# Altium footprint library openadsb_rev_a.PcbLib: 19 footprints (part 1 of 2)
Each footprint in its own frame and in the unit in brackets; x right, y up, seen from the top. Pads: shape width x height; smd on the part's side, far side on the other; paste and mask are expansions set on the pad; w line width, h text height; cw(c..) or ccw(c..) is an arc to the next point about the centre after c.
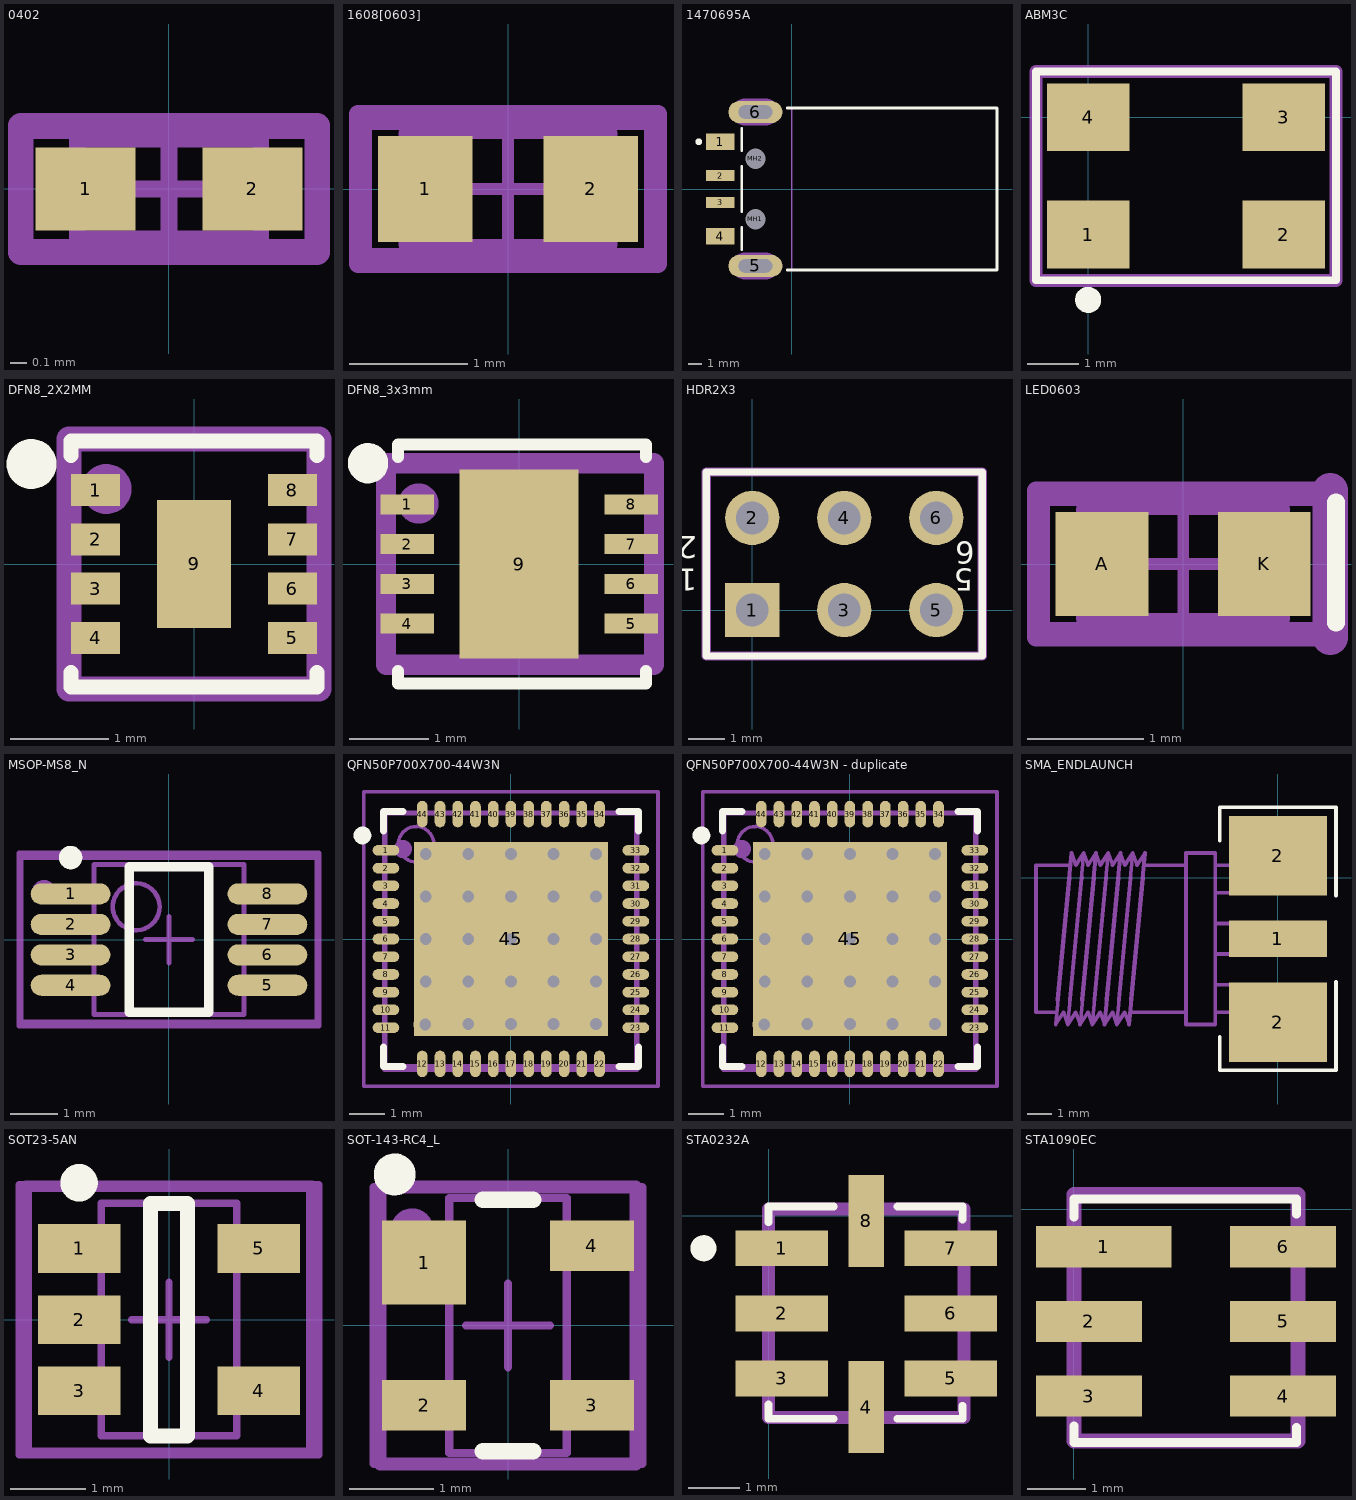
[diagram p0: the footprints below, top view; thin cyan lines are the x and y axes]

## 0402 [mm] "Chip Capacitor, Body 1.0x0.5mm, IPC High Density"
height 1.3
pads (2):
  rect 0.6x0.5 smd: 1(-0.5,0) 2(0.5,0)
Mechanical 1:
  lines w0.152: -0.889,-0.381 0.889,-0.381 0.889,0.381 -0.889,0.381 -0.889,-0.381
  text ".Designator" at 0.635,0.254 h0.51
Mechanical 13:
  lines w0.1: -0.55,-0.3 0.55,-0.3 0.55,0.3 -0.55,0.3 -0.55,-0.3
Mechanical 15:
  lines w0.1: -0.3,0 0.3,0 ; 0,-0.3 0,0.3 ; -0.9,-0.35 0.9,-0.35 0.9,0.35 -0.9,0.35 -0.9,-0.35
3D body: height 1.3, standoff 0, extent -0.55,-0.3 0.55,0.3

## 1608[0603] [mm] "Chip Capacitor, Body 1.6x0.8mm, IPC High Density"
height 1.3
pads (2):
  rect 0.8x0.9 smd: 1(-0.7,0) 2(0.7,0)
Mechanical 1:
  lines w0.152: -1.27,-0.635 -1.27,0.635 1.27,0.635 1.27,-0.635 -1.27,-0.635
  text ".Designator" at -1.016,-0.254 h0.51
Mechanical 13:
  lines w0.1: -0.875,-0.475 -0.875,0.475 0.875,0.475 0.875,-0.475 -0.875,-0.475
Mechanical 15:
  lines w0.1: -0.475,0 0.475,0 ; 0,-0.475 0,0.475 ; -1.2,-0.55 -1.2,0.55 1.2,0.55 1.2,-0.55 -1.2,-0.55
3D body: height 1.3, standoff 0, extent -0.875,-0.475 0.875,0.475

## 1470695A [mm] "Connector; USB1.1, Type A, SM; 4 Position; Right Angle"
height 4.5
pads (8):
  rect 2.1x1.2 smd: 1(-5.3,3.5) 4(-5.3,-3.5)
  rect 2.1x0.8 smd: 2(-5.3,1) 3(-5.3,-1)
  oval 4x1.65 hole 1 slot 2.5 at 0 deg: 5(-2.7,-5.7) 6(-2.7,5.7)
  round 1.2 hole 1.5 unplated: MH1(-2.7,-2.25) MH2(-2.7,2.25)
Top Overlay:
  circle w0.25: c-6.9,3.5 r0.125
  lines w0.2: -3.7,-4.475 -3.7,-2.83 ; -3.7,-1.68 -3.7,1.68 ; -3.7,2.83 -3.7,4.475 ; -0.33,-6 15.2,-6 15.2,6 -0.33,6
Mechanical 1:
  lines w0.1: 0,-6 0,6
  lines w1: -3.45,-5.7 -1.95,-5.7 ; -3.45,5.7 -1.95,5.7
  text ".Designator" at -1.194,-0.051 h0.51
  text "PCB Edge" at 0.473,-5.173 h0.25
  text "Alert PCB fab to slot details" at -1,8.176 h0.3
  text "Slot 1x2.5mm, PTH" at -1,7.676 h0.3
  text "Assign keep-out area to slot" at -1,8.676 h0.3
  text "Mech 1 - Slot cut-out" at -1,7.176 h0.3
  text "Mech 2 - Clearance, move to internal plane if present" at -1,6.676 h0.3
Mechanical 2:
  lines w2.016: -3.45,-5.7 -1.95,-5.7 ; -3.45,5.7 -1.95,5.7

## ABM3C [mil]
height 21.65
pads (4):
  rect 63x52 smd: 1(0,-90) 2(150,-90) 3(150,0) 4(0,0)
Top Overlay:
  circle w10: c0,-140 r5
  lines w6: -40,-125 190,-125 190,35 -40,35 -40,-125
Mechanical 1:
  circle w10: c0,-100 r5
  lines w10: -40,-125 190,-125 190,35 -40,35 -40,-125
  text ".Designator" at 71,-35 h20

## DFN8_2X2MM [mm]
height 0.9
pads (9):
  rect 0.5x0.325 smd: 1(-1,0.75) 2(-1,0.25) 3(-1,-0.25) 4(-1,-0.75) 5(1,-0.75) 6(1,-0.25) 7(1,0.25) 8(1,0.75)
  rect 0.749x1.3 smd: 9(0,0)
Top Overlay:
  circle w0.254: c-1.651,1.016 r0.127
  lines w0.152: -1.25,-1.1 -1.25,-1.25 1.25,-1.25 1.25,-1.1 ; -1.25,1.1 -1.25,1.25 1.25,1.25 1.25,1.1
Mechanical 1:
  circle w0.254: c-0.889,0.762 r0.127
  lines w0.254: -1.27,-1.27 -1.27,1.27 1.27,1.27 1.27,-1.27 -1.27,-1.27
  text ".Designator" at 0.152,-0.279 h0.51

## DFN8_3x3mm [mm]
height 0.75
pads (9):
  rect 0.675x0.25 smd: 1(-1.41,0.75) 2(-1.41,0.25) 3(-1.41,-0.25) 4(-1.41,-0.75) 5(1.41,-0.75) 6(1.41,-0.25) 7(1.41,0.25) 8(1.41,0.75)
  rect 1.5x2.38 smd: 9(-0.004,0)
Top Overlay:
  circle w0.254: c-1.905,1.27 r0.127
  lines w0.152: -1.528,-1.504 1.597,-1.504 ; -1.528,-1.499 -1.528,-1.349 ; -1.528,1.349 -1.528,1.499 ; -1.528,1.504 1.597,1.504 ; 1.597,-1.496 1.597,-1.346 ; 1.597,1.346 1.597,1.496
Mechanical 1:
  circle w0.254: c-1.27,0.762 r0.127
  lines w0.254: -1.68,-1.27 1.698,-1.27 1.698,1.27 -1.68,1.27 -1.68,-1.27
  text ".Designator" at -0.689,-0.279 h0.51

## HDR2X3 [mm] "Connector; Header; 3x2 Position"
height 0.9
pads (6):
  rect 1.5x1.5 hole 0.9: 1(0,0)
  round 1.5 hole 0.9: 2(0,2.54) 3(2.54,0) 4(2.54,2.54) 5(5.08,0) 6(5.08,2.54)
Top Overlay:
  lines w0.2: 1.482,-1.27 6.35,-1.27 ; 6.35,-1.27 6.35,3.81 -1.27,3.81 -1.27,-1.27 6.35,-1.27
  text "6" at 6.147,1.88 h0.61
  text "5" at 6.096,1.143 h0.61
  text "2" at -1.524,2.032 h0.61
  text "1" at -1.524,1.143 h0.61
Mechanical 1:
  lines w0.254: -1.27,-1.27 6.35,-1.27 6.35,3.81 -1.27,3.81 -1.27,-1.27
  text ".Designator" at 2.845,0.635 h0.51

## LED0603 [mm] "Chip Capacitor, Body 1.6x0.8mm, IPC High Density"
height 1.3
pads (2):
  rect 0.8x0.9 smd: A(-0.7,0) K(0.7,0)
Top Overlay:
  lines w0.152: 1.321,-0.508 1.321,0.533
Mechanical 1:
  lines w0.152: 1.27,-0.635 -1.27,-0.635 -1.27,0.635 1.27,0.635
  lines w0.305: 1.27,-0.635 1.27,0.635
  text ".Designator" at -1.016,-0.254 h0.51
Mechanical 13:
  lines w0.1: -0.875,-0.475 0.875,-0.475 0.875,0.475 -0.875,0.475 -0.875,-0.475
Mechanical 15:
  lines w0.1: -0.475,0 0.475,0 ; 0,-0.475 0,0.475 ; -1.2,-0.55 1.2,-0.55 1.2,0.55 -1.2,0.55 -1.2,-0.55
3D body: height 1.3, standoff 0, extent -0.875,-0.475 0.875,0.475

## MSOP-MS8_N [mm] "TSOP, 8-Leads, Body 3x3mm, Pitch 0.65mm, IPC Medium Density"
height 1.1
pads (8):
  oval 1.7x0.45 smd: 1(-2.1,0.975) 2(-2.1,0.325) 3(-2.1,-0.325) 4(-2.1,-0.975) 5(2.1,-0.975) 6(2.1,-0.325) 7(2.1,0.325) 8(2.1,0.975)
Top Overlay:
  circle w0.25: c-2.1,1.75 r0.125
  lines w0.2: -0.85,-1.55 -0.85,1.55 0.85,1.55 0.85,-1.55 -0.85,-1.55
Mechanical 1:
  circle w0.254: c-2.667,1.016 r0.127
  lines w0.152: -3.175,-1.778 -3.175,1.778 3.175,1.778 3.175,-1.778 -3.175,-1.778
  text ".Designator" at 0.254,0.279 h0.51
Mechanical 13:
  circle w0.1: c-0.7,0.7 r0.5
  lines w0.1: -1.6,-1.6 -1.6,1.6 1.6,1.6 1.6,-1.6 -1.6,-1.6
Mechanical 15:
  lines w0.1: -0.5,0 0.5,0 ; 0,-0.5 0,0.5 ; -3.2,-1.85 -3.2,1.85 3.2,1.85 3.2,-1.85 -3.2,-1.85
3D body: height 1.1, standoff 0, extent -1.6,-1.6 1.6,1.6

## QFN50P700X700-44W3N [mm] "QFN, 44-Leads, Body 7x7mm, Pitch 0.5mm, IPC Medium Density"
height 0.8
pads (45):
  oval 0.75x0.3 smd: 1(-3.525,2.5) 2(-3.525,2) 3(-3.525,1.5) 4(-3.525,1) 5(-3.525,0.5) 6(-3.525,0) 7(-3.525,-0.5) 8(-3.525,-1) 9(-3.525,-1.5) 10(-3.525,-2) 11(-3.525,-2.5) 23(3.525,-2.5) 24(3.525,-2) 25(3.525,-1.5) 26(3.525,-1) 27(3.525,-0.5) 28(3.525,0) 29(3.525,0.5) 30(3.525,1) 31(3.525,1.5) 32(3.525,2) 33(3.525,2.5)
  oval 0.3x0.75 smd: 12(-2.5,-3.525) 13(-2,-3.525) 14(-1.5,-3.525) 15(-1,-3.525) 16(-0.5,-3.525) 17(0,-3.525) 18(0.5,-3.525) 19(1,-3.525) 20(1.5,-3.525) 21(2,-3.525) 22(2.5,-3.525) 34(2.5,3.525) 35(2,3.525) 36(1.5,3.525) 37(1,3.525) 38(0.5,3.525) 39(0,3.525) 40(-0.5,3.525) 41(-1,3.525) 42(-1.5,3.525) 43(-2,3.525) 44(-2.5,3.525)
  rect 5.475x5.475 smd: 45(0,0)
via -2.413,-2.413 diameter 0.66 hole 0.33
via -2.4,2.4 diameter 0.66 hole 0.33
via -2.4,0 diameter 0.66 hole 0.33
via -2.4,1.2 diameter 0.66 hole 0.33
via -2.4,-1.2 diameter 0.66 hole 0.33
via -1.2,2.4 diameter 0.66 hole 0.33
via 0,2.4 diameter 0.66 hole 0.33
via 2.4,2.4 diameter 0.66 hole 0.33
via -1.2,0 diameter 0.66 hole 0.33
via 1.2,2.4 diameter 0.66 hole 0.33
via -1.2,1.2 diameter 0.66 hole 0.33
via 0,1.2 diameter 0.66 hole 0.33
via 1.2,1.2 diameter 0.66 hole 0.33
via 2.4,1.2 diameter 0.66 hole 0.33
via 0,0 diameter 0.66 hole 0.33
via 1.2,0 diameter 0.66 hole 0.33
via 2.4,0 diameter 0.66 hole 0.33
via -1.2,-1.2 diameter 0.66 hole 0.33
via 0,-1.2 diameter 0.66 hole 0.33
via 1.2,-1.2 diameter 0.66 hole 0.33
via 2.4,-1.2 diameter 0.66 hole 0.33
via -1.2,-2.4 diameter 0.66 hole 0.33
via 0,-2.4 diameter 0.66 hole 0.33
via 1.2,-2.4 diameter 0.66 hole 0.33
via 2.4,-2.4 diameter 0.66 hole 0.33
Top Overlay:
  circle w0.25: c-4.189,2.921 r0.125
  lines w0.2: -3.6,-3.05 -3.6,-3.6 -3.05,-3.6 ; -3.6,3.05 -3.6,3.6 -3.05,3.6 ; 3.05,-3.6 3.6,-3.6 3.6,-3.05 ; 3.05,3.6 3.6,3.6 3.6,3.05
Mechanical 1:
  circle w0.254: c-3.048,2.54 r0.127
  lines w0.152: -3.556,-3.683 3.556,-3.683 3.556,3.556 -3.556,3.556 -3.556,-3.683
  text ".Designator" at -0.203,-0.432 h0.51
Mechanical 13:
  circle w0.1: c-2.675,2.675 r0.5
  lines w0.1: -3.575,-3.575 -3.575,3.575 3.575,3.575 3.575,-3.575 -3.575,-3.575
Mechanical 15:
  lines w0.1: -0.5,0 0.5,0 ; 0,-0.5 0,0.5 ; -4.15,-4.15 -4.15,4.15 4.15,4.15 4.15,-4.15 -4.15,-4.15
3D body: height 0.8, standoff 0, extent -3.575,-3.575 3.575,3.575

## QFN50P700X700-44W3N - duplicate [mm] "QFN, 44-Leads, Body 7x7mm, Pitch 0.5mm, IPC Medium Density"
height 0.8
pads (45):
  oval 0.75x0.3 smd: 1(-3.525,2.5) 2(-3.525,2) 3(-3.525,1.5) 4(-3.525,1) 5(-3.525,0.5) 6(-3.525,0) 7(-3.525,-0.5) 8(-3.525,-1) 9(-3.525,-1.5) 10(-3.525,-2) 11(-3.525,-2.5) 23(3.525,-2.5) 24(3.525,-2) 25(3.525,-1.5) 26(3.525,-1) 27(3.525,-0.5) 28(3.525,0) 29(3.525,0.5) 30(3.525,1) 31(3.525,1.5) 32(3.525,2) 33(3.525,2.5)
  oval 0.3x0.75 smd: 12(-2.5,-3.525) 13(-2,-3.525) 14(-1.5,-3.525) 15(-1,-3.525) 16(-0.5,-3.525) 17(0,-3.525) 18(0.5,-3.525) 19(1,-3.525) 20(1.5,-3.525) 21(2,-3.525) 22(2.5,-3.525) 34(2.5,3.525) 35(2,3.525) 36(1.5,3.525) 37(1,3.525) 38(0.5,3.525) 39(0,3.525) 40(-0.5,3.525) 41(-1,3.525) 42(-1.5,3.525) 43(-2,3.525) 44(-2.5,3.525)
  rect 5.475x5.475 smd: 45(0,0)
via 2.4,-2.4 diameter 0.66 hole 0.33
via 1.2,-2.4 diameter 0.66 hole 0.33
via 0,-2.4 diameter 0.66 hole 0.33
via -1.2,-2.4 diameter 0.66 hole 0.33
via 2.4,-1.2 diameter 0.66 hole 0.33
via 1.2,-1.2 diameter 0.66 hole 0.33
via 0,-1.2 diameter 0.66 hole 0.33
via -1.2,-1.2 diameter 0.66 hole 0.33
via 2.4,0 diameter 0.66 hole 0.33
via 1.2,0 diameter 0.66 hole 0.33
via 0,0 diameter 0.66 hole 0.33
via 2.4,1.2 diameter 0.66 hole 0.33
via 1.2,1.2 diameter 0.66 hole 0.33
via 0,1.2 diameter 0.66 hole 0.33
via -1.2,1.2 diameter 0.66 hole 0.33
via 1.2,2.4 diameter 0.66 hole 0.33
via -1.2,0 diameter 0.66 hole 0.33
via 2.4,2.4 diameter 0.66 hole 0.33
via 0,2.4 diameter 0.66 hole 0.33
via -1.2,2.4 diameter 0.66 hole 0.33
via -2.4,-1.2 diameter 0.66 hole 0.33
via -2.4,1.2 diameter 0.66 hole 0.33
via -2.4,0 diameter 0.66 hole 0.33
via -2.4,2.4 diameter 0.66 hole 0.33
via -2.413,-2.413 diameter 0.66 hole 0.33
Top Overlay:
  circle w0.25: c-4.189,2.921 r0.125
  lines w0.2: -3.6,-3.05 -3.6,-3.6 -3.05,-3.6 ; -3.6,3.05 -3.6,3.6 -3.05,3.6 ; 3.05,-3.6 3.6,-3.6 3.6,-3.05 ; 3.05,3.6 3.6,3.6 3.6,3.05
Mechanical 1:
  circle w0.254: c-3.048,2.54 r0.127
  lines w0.152: -3.556,-3.683 -3.556,3.556 3.556,3.556 3.556,-3.683 -3.556,-3.683
  text ".Designator" at -0.203,-0.432 h0.51
Mechanical 13:
  circle w0.1: c-2.675,2.675 r0.5
  lines w0.1: -3.575,-3.575 3.575,-3.575 3.575,3.575 -3.575,3.575 -3.575,-3.575
Mechanical 15:
  lines w0.1: -0.5,0 0.5,0 ; 0,-0.5 0,0.5 ; -4.15,-4.15 4.15,-4.15 4.15,4.15 -4.15,4.15 -4.15,-4.15
3D body: height 0.8, standoff 0, extent -3.575,-3.575 3.575,3.575

## SMA_ENDLAUNCH [mil]
pads (3):
  rect 160x60 smd: 1(0,-100)
  rect 160x130 all layers, no hole: 2(0,-236.22) 2(0,35.43)
Top Overlay:
  lines w6: -95,-260 -95,-315 95,-315 95,-170 ; -95,60 -95,115 95,115 95,-30
Mechanical 1:
  lines w6: -361.08,-220 -395,-220 -395,20 -340,20 ; -360,-200 -337,40 -330,20 -317,40 ; -340,-200 -317,40 ; -340,0 -363,-240 -350,-220 -343,-240 ; -320,-200 -297,40 ; -320,0 -343,-240 ; -300,-200 -277,40 ; -300,0 -323,-240 ; -280,-200 -257,40 ; -280,0 -303,-240 ; -260,-200 -237,40 ; -260,0 -283,-240 ; -241.08,-220 -150,-220 ; -240,-200 -217,40 -230,20 -237,40 ; -240,0 -263,-240 ; -220,0 -243,-240 -250,-220 -263,-240 ; -218.92,20 -150,20 ; -102,-220 50,-220 50,-175 -102,-175 ; -102,-25 50,-25 50,20 -102,20 ; -343,-240 -330,-220 -323,-240 ; -323,-240 -310,-220 -303,-240 ; -317,40 -310,20 -297,40 ; -303,-240 -290,-220 -283,-240 ; -297,40 -290,20 -277,40 ; -283,-240 -270,-220 -263,-240 ; -277,40 -270,20 -257,40 ; -257,40 -250,20 -237,40 ; -150,-240 -102,-240 -102,40 -150,40 -150,-240 ; -102,-125 50,-125 50,-75 -102,-75 -102,-125
  text ".Designator" at -31,-111 h20

## SOT23-5AN [mm] "SOT23, 5-Leads, Body 2.9x1.6mm, Pitch 0.95mm, Lead Span 2.8mm, IPC Medium Density"
height 1.45
pads (5):
  rect 1.1x0.65 smd: 1(-1.2,0.95) 2(-1.2,0) 3(-1.2,-0.95) 4(1.2,-0.95) 5(1.2,0.95)
Top Overlay:
  circle w0.25: c-1.2,1.825 r0.125
  lines w0.2: -0.25,-1.55 0.25,-1.55 0.25,1.55 -0.25,1.55 -0.25,-1.55
Mechanical 1:
  lines w0.152: -1.905,-1.778 -1.905,1.778 1.905,1.778 1.905,-1.778 -1.905,-1.778
  text ".Designator" at 0.305,0.203 h0.51
Mechanical 13:
  lines w0.1: -0.9,-1.55 -0.9,1.55 0.9,1.55 0.9,-1.55 -0.9,-1.55
Mechanical 15:
  lines w0.1: -0.5,0 0.5,0 ; 0,-0.5 0,0.5 ; -2,-1.8 -2,1.8 2,1.8 2,-1.8 -2,-1.8
3D body: height 1.45, standoff 0, extent -0.9,-1.55 0.9,1.55

## SOT-143-RC4_L [mm] "SOT143, 4-Leads, Body 2.9x1.3mm, Pitch 1.9mm, Lead Span 2.4mm, IPC High Density"
height 1.22
pads (4):
  rect 1x1 smd: 1(-1,0.75)
  rect 1x0.6 smd: 2(-1,-0.95) 3(1,-0.95) 4(1,0.95)
Top Overlay:
  circle w0.25: c-1.35,1.8 r0.125
  lines w0.2: -0.3,-1.5 0.3,-1.5 ; -0.3,1.5 0.3,1.5
Mechanical 1:
  circle w0.254: c-1.143,1.143 r0.127
  lines w0.152: -1.524,-1.651 1.524,-1.651 1.524,1.651 -1.524,1.651 -1.524,-1.651
  text ".Designator" at -0.127,1.143 h0.51
Mechanical 13:
  lines w0.1: -0.7,-1.52 0.7,-1.52 0.7,1.52 -0.7,1.52 -0.7,-1.52
Mechanical 15:
  lines w0.1: -0.5,0 0.5,0 ; 0,-0.5 0,0.5 ; -1.6,-1.65 1.6,-1.65 1.6,1.65 -1.6,1.65 -1.6,-1.65
3D body: height 1.22, standoff 0, extent -0.7,-1.52 0.7,1.52

## STA0232A [mm]
height 0.55
pads (8):
  rect 1.8x0.7 smd: 1(0.254,-0.635) 2(0.254,-1.905) 3(0.254,-3.175) 5(3.556,-3.175) 6(3.556,-1.905) 7(3.556,-0.635)
  rect 0.7x1.8 smd: 4(1.905,-3.734) 8(1.905,-0.102)
Top Overlay:
  circle w0.254: c-1.27,-0.635 r0.127
  lines w0.152: 0,-3.683 0,-3.962 1.27,-3.962 ; 0,-0.127 0,0.178 1.27,0.178 ; 2.516,-3.962 3.786,-3.962 3.785,-3.708 ; 2.516,0.178 3.786,0.178 3.785,-0.076
Mechanical 1:
  circle w0.254: c0.508,-0.635 r0.127
  lines w0.254: 0,-3.937 0,0.127 3.81,0.127 3.81,-3.937 0,-3.937
  text ".Designator" at 1.651,-1.575 h0.51

## STA1090EC [mm]
height 0.55
pads (6):
  rect 2.3x0.7 smd: 1(0.508,-0.635)
  rect 1.8x0.7 smd: 2(0.254,-1.905) 3(0.254,-3.175) 4(3.556,-3.175) 5(3.556,-1.905) 6(3.556,-0.635)
Top Overlay:
  lines w0.152: 0,-3.683 0,-3.962 3.786,-3.962 3.785,-3.708 ; 0,-0.127 0,0.178 3.786,0.178 3.785,-0.076
Mechanical 1:
  circle w0.254: c0.508,-0.635 r0.127
  lines w0.254: 0,-3.937 3.81,-3.937 3.81,0.254 0,0.254 0,-3.937
  text ".Designator" at 1.524,-2.108 h0.51